# Altium schematic symbol library Microphone,MEMS,PDM,Top Port,SMD.Schlib: 1 symbol
Pins are listed as number, name and electrical type; pins without a type are passive.

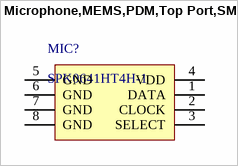
[diagram p0: symbol Microphone,MEMS,PDM,Top Port,SMD]

## Microphone,MEMS,PDM,Top Port,SMD
designator MIC?, comment SPK0641HT4H-1
20Hz ~ 20kHz Digital, PDM Microphone MEMS (Silicon) 1.6V ~ 3.6V Omnidirectional (-26dB ±1dB @ 94dB SPL) Solder Pads
pins: 1 DATA, 2 CLOCK, 3 SELECT, 4 VDD, 5 GND, 6 GND, 7 GND, 8 GND